# Altium schematic symbol library 原理图库.SchLib: 215 symbols (part 3 of 3)
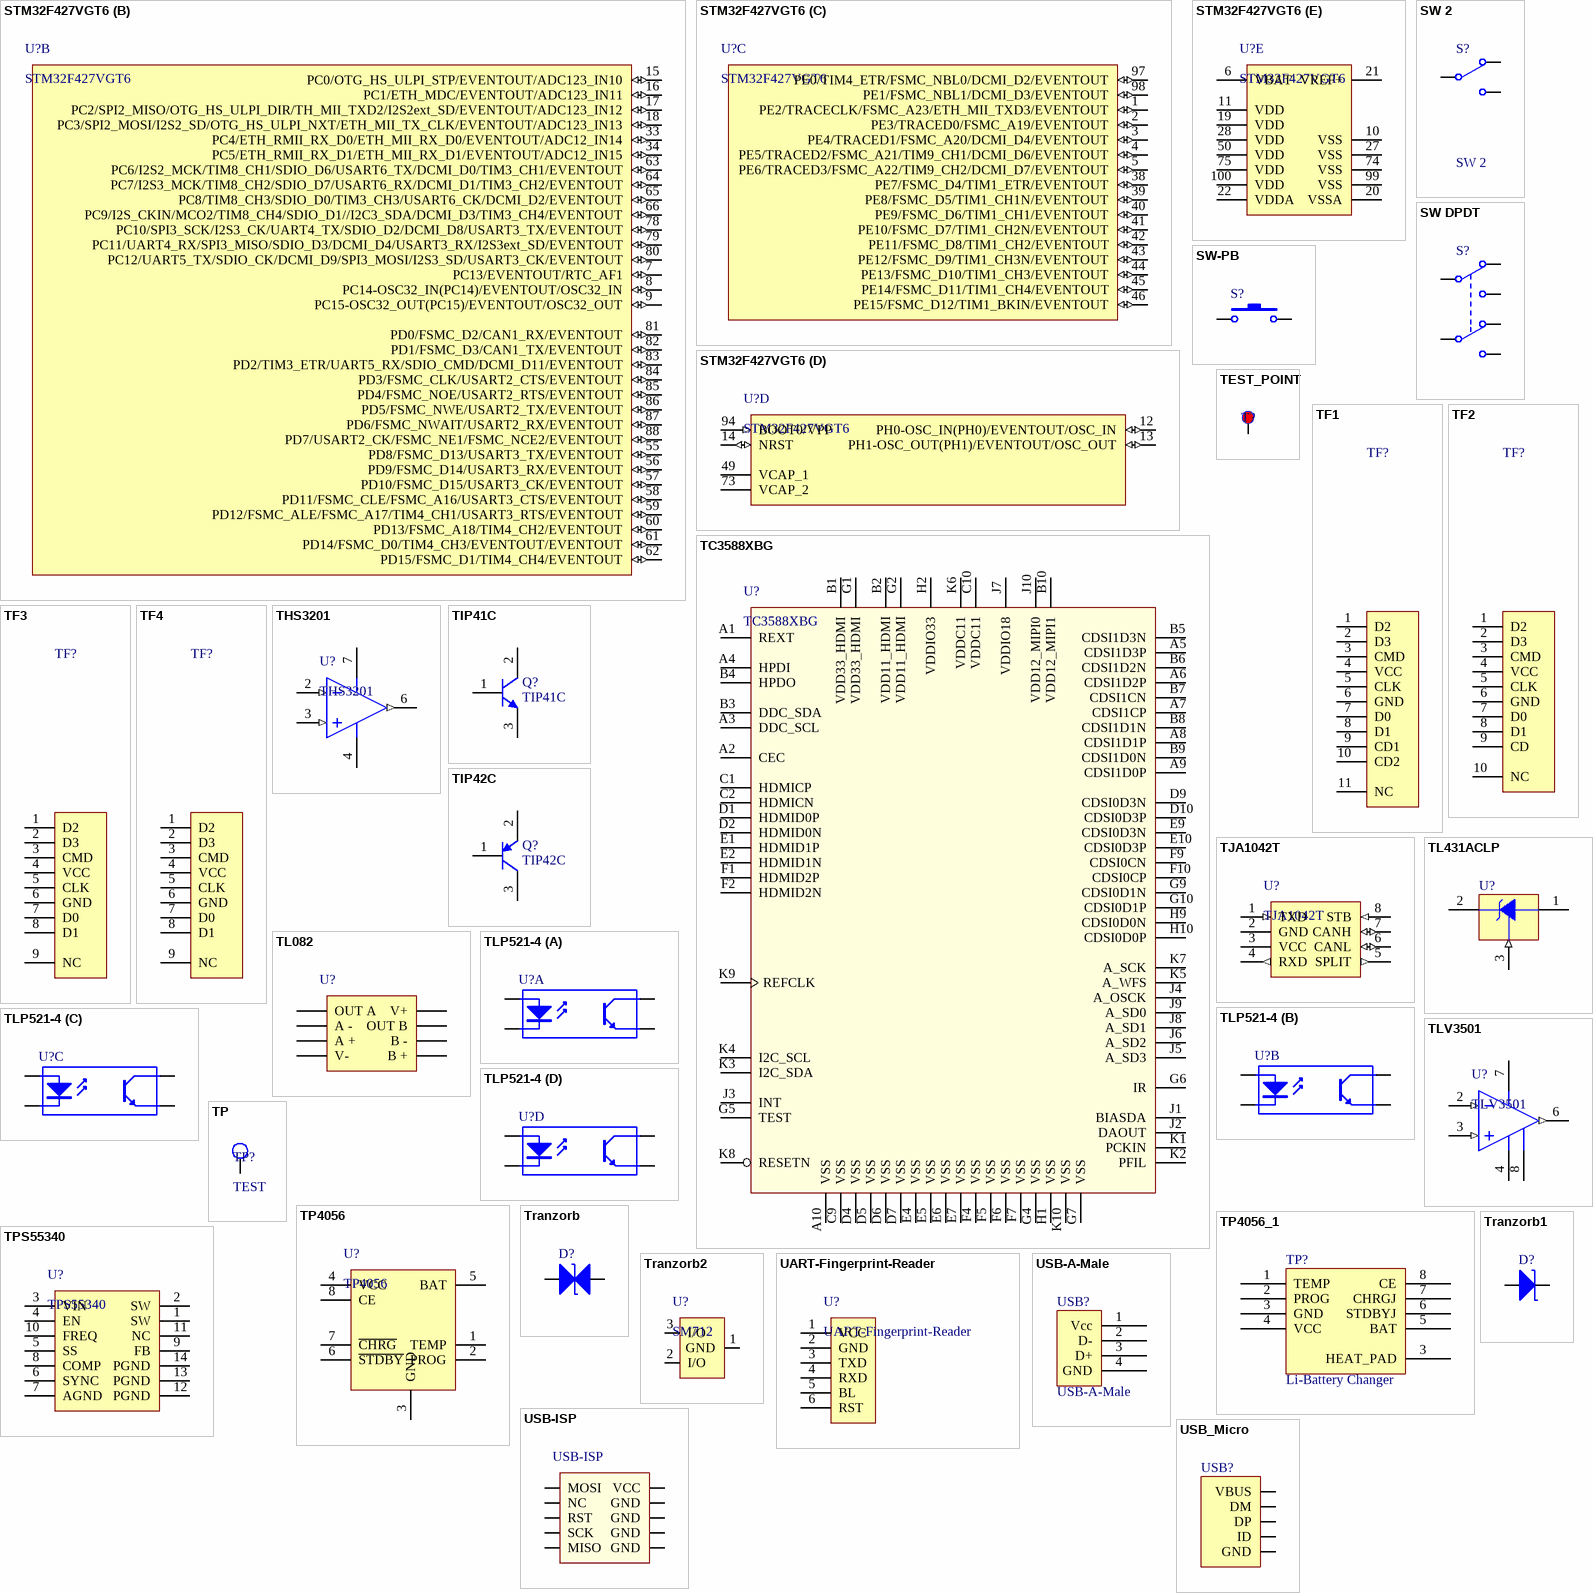
[diagram p10: symbols STM32F427VGT6 to USB_Micro]

## TIP42C
designator Q?
NPN Bipolar Transistor; Published: 8-Jun-2000; LatestRevisionDate: 17-Jul-2002; LatestRevisionNote: Re-released for DXP Platform.; PackageReference: TO-226-AA; Publisher: Altium Limited; PackageDescription: TO, Flat Index; 3 In-Line, Axial Leads; Body Dia. 4.8mm; Leads 0.55 x 0.51 mm (max); Code_JEDEC: TO-226-AA
footprint TO-220AB (TO, Thru-Hole, Vertical, Heatsink Mounted; 3 In-Line Leads; Pitch 2.54 mm)
pins: 1 B, 2 E, 3 C

## TJA1042T
designator U?
具有待机模式的高速CAN收发器
footprint SOIC8_L (SOIC, 8-Leads, Body 4.9x3.9mm, Pitch 1.27mm, IPC High Density)
footprint SOIC8_M (SOIC, 8-Leads, Body 4.9x3.9mm, Pitch 1.27mm, IPC Low Density)
footprint SOIC8_N (SOIC, 8-Leads, Body 4.9x3.9mm, Pitch 1.27mm, IPC Medium Density)
pins: 1 TXD (in), 2 GND (power), 3 VCC (power), 4 RXD (out), 5 SPLIT (out), 6 CANL (io), 7 CANH (io), 8 STB (in)

## TL082
designator U?  (value not drawn)
footprint DIP-8
pins: 1 OUT A, 2 A -, 3 A +, 4 V-, 5 B +, 6 B -, 7 OUT B, 8 V+

## TL431ACLP
designator U?
Programmable Precision Reference; Published: 15-Apr-2002; DatasheetVersion: 1999; PackageVersion: 1996; PackageReference: 29-04; Publisher: Altium Limited; PackageDescription: TO, Flat Index; 3 In-Line, Axial Leads; Body Dia. 4.8mm; Leads 0.48 x 0.51 mm (max); ComponentLink1Description: Manufacturer Link; ComponentLink1URL: http://www.onsemi.com/site/products/taxonomy/0,4438,503,00.html; ComponentLink2Description: Datasheet; ComponentLink2URL: http://www.onsemi.com/pub/Collateral/TL431-D.PDF
footprint SOT23_L (SOT23, 3-Leads, Body 2.9x1.3mm, Pitch 0.95mm, Lead Span 2.3mm - Reverse Pinning, IPC High Density)
footprint SOT23_M (SOT23, 3-Leads, Body 2.9x1.3mm, Pitch 0.95mm, Lead Span 2.3mm - Reverse Pinning, IPC Low Density)
footprint SOT23_N (SOT23, 3-Leads, Body 2.9x1.3mm, Pitch 0.95mm, Lead Span 2.3mm - Reverse Pinning, IPC Medium Density)
pins: 1 A, 2 K, 3 REF (in)

## TLP521-4
designator U?  (value not drawn)
Published: 24-Mar-1999; LatestRevisionDate: 04-Mar-2005; LatestRevisionNote: Sch pins 3 & 4 Swapped.; DatasheetVersion: Nov-2003; PackageReference: DIP-4; Publisher: Altium Limited
footprint DIP-16 (width 7.62mm)
part A pins: 1 A "Anode", 2 K "Cathode", 15 E "Emitter", 16 C "Collector"
part B pins: 3 A "Anode", 4 K "Cathode", 13 E "Emitter", 14 C "Collector"
part C pins: 5 A "Anode", 6 K "Cathode", 11 E "Emitter", 12 C "Collector"
part D pins: 7 A "Anode", 8 K "Cathode", 9 E "Emitter", 10 C "Collector"

## TLV3501
designator U?
footprint SOP8_M (SOIC, 8-Leads, Body 4.9x3.9mm, Pitch 1.27mm, IPC Low Density)
footprint SOP8_L (SOIC, 8-Leads, Body 4.9x3.9mm, Pitch 1.27mm, IPC High Density)
footprint SOP8_N (SOIC, 8-Leads, Body 4.9x3.9mm, Pitch 1.27mm, IPC Medium Density)
pins: 2 IN- (in), 3 IN+ (in), 4 V- (power), 6 OUT (out), 7 V+ (power), 8 SHDN (power)

## TP
designator TP?, comment TEST
footprint JP1
pins: 1

## TP4056
designator U?
footprint SOP8_N (SOIC, 8-Leads, Body 4.9x3.9mm, Pitch 1.27mm, IPC Medium Density)
pins: 1 TEMP, 2 PROG, 3 GND, 4 VCC, 5 BAT, 6 ~{STDBY}, 7 ~{CHRG}, 8 CE

## TP4056_1
designator TP?, comment Li-Battery Changer
footprint SOP8_L (SOIC, 8-Leads, Body 4.9x3.9mm, Pitch 1.27mm, IPC High Density)
footprint SOP8_M (SOIC, 8-Leads, Body 4.9x3.9mm, Pitch 1.27mm, IPC Low Density)
footprint SOP8_N (SOIC, 8-Leads, Body 4.9x3.9mm, Pitch 1.27mm, IPC Medium Density)
pins: 1 TEMP, 2 PROG, 3 GND, 3 HEAT_PAD, 4 VCC, 5 BAT, 6 STDBYJ, 7 CHRGJ, 8 CE

## TPS55340
designator U?
footprint TSSOP14_L (TSOP, 14-Leads, Body 5x4.4mm, Pitch 0.65mm, IPC High Density)
footprint TSSOP14_M (TSOP, 14-Leads, Body 5x4.4mm, Pitch 0.65mm, IPC Low Density)
footprint TSSOP14_N (TSOP, 14-Leads, Body 5x4.4mm, Pitch 0.65mm, IPC Medium Density)
pins: 1 SW, 2 SW, 3 VIN, 4 EN, 5 SS, 6 SYNC, 7 AGND, 8 COMP, 9 FB, 10 FREQ, 11 NC, 12 PGND, 13 PGND, 14 PGND

## Tranzorb
designator D?
Transient Voltage Suppression (TVS) Diode; Published: 24-Mar-1999; LatestRevisionDate: 17-Jul-2002; LatestRevisionNote: Re-released for DXP Platform.; PackageReference: DO-7; Publisher: Altium Limited; PackageDescription: Axial Lead Diode
footprint DO-214AC (SMA)
footprint DO-214AB (SMC)
footprint DO-214AA (SMB)
pins: 1 A, 2 K

## Tranzorb1
designator D?
Transient Voltage Suppression (TVS) Diode; Published: 24-Mar-1999; LatestRevisionDate: 17-Jul-2002; LatestRevisionNote: Re-released for DXP Platform.; PackageReference: DO-7; Publisher: Altium Limited; PackageDescription: Axial Lead Diode
footprint DO-214AC (SMA)
footprint DO-214AB (SMC)
footprint DO-214AA (SMB)
pins: 1 A, 2 K

## Tranzorb2
designator U?, comment SM712
footprint SOT23_L (SOT23, 3-Leads, Body 2.9x1.3mm, Pitch 0.95mm, Lead Span 2.3mm - Reverse Pinning, IPC High Density)
footprint SOT23_M (SOT23, 3-Leads, Body 2.9x1.3mm, Pitch 0.95mm, Lead Span 2.3mm - Reverse Pinning, IPC Low Density)
footprint SOT23_N (SOT23, 3-Leads, Body 2.9x1.3mm, Pitch 0.95mm, Lead Span 2.3mm - Reverse Pinning, IPC Medium Density)
pins: 1 GND (power), 2 I/O (power), 3 I/O (power)

## UART-Fingerprint-Reader
designator U?
footprint UART-Fingerprint-Reader (微雪指纹模块)
pins: 1 VCC, 2 GND, 3 TXD, 4 RXD, 5 BL, 6 RST

## USB-A-Male
designator USB?
footprint USB-A-Male
pins: 1 Vcc, 2 D-, 3 D+, 4 GND

## USB-ISP
designator USB-ISP, comment 1  (value not drawn)
footprint Header 5x2
pins: 1 MOSI, 2 NC, 3 RST, 4 SCK, 5 MISO, 6 GND, 7 GND, 8 GND, 9 GND, 10 VCC

## USB_Micro
designator USB?  (value not drawn)
USB
footprint USB_Micro (5P 贴片 带定位柱)
footprint USB_Micro_U018 (5P 直插)
pins: 1 VBUS, 2 DM, 3 DP, 4 ID, 5 GND

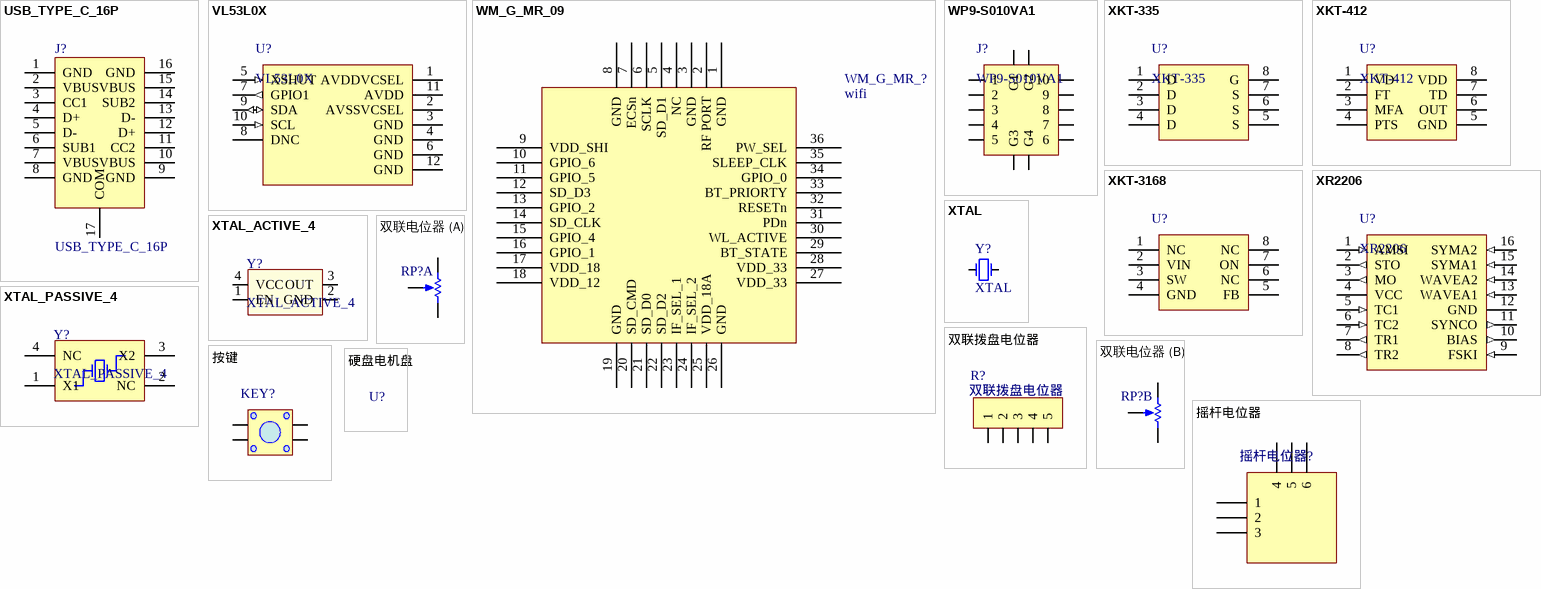
[diagram p8: symbols USB_TYPE_C_16P to 硬盘电机盘]

## USB_TYPE_C_16P
designator J?
footprint USB_TYPEC_16P
pins: 1 GND, 2 VBUS, 3 CC1, 4 D+, 5 D-, 6 SUB1, 7 VBUS, 8 GND, 9 GND, 10 VBUS, 11 CC2, 12 D+, 13 D-, 14 SUB2, 15 VBUS, 16 GND, 17 COM

## VL53L0X
designator U?
footprint VL53L0X
pins: 1 AVDDVCSEL (power), 2 AVSSVCSEL (power), 3 GND (power), 4 GND (power), 5 XSHUT (in), 6 GND (power), 7 GPIO1 (out), 8 DNC, 9 SDA (io), 10 SCL (in), 11 AVDD (power), 12 GND (power)

## WM_G_MR_09
designator WM_G_MR_?, comment wifi
footprint WM_G_MR_09
pins: 1 GND, 2 RF PORT, 3 GND, 4 NC, 5 SD_D1, 6 SCLK, 7 ECSn, 8 GND, 9 VDD_SHI, 10 GPIO_6, 11 GPIO_5, 12 SD_D3, 13 GPIO_2, 14 SD_CLK, 15 GPIO_4, 16 GPIO_1, 17 VDD_18, 18 VDD_12, 19 GND, 20 SD_CMD, 21 SD_D0, 22 SD_D2, 23 IF_SEL_1, 24 IF_SEL_2, 25 VDD_18A, 26 GND, 27 VDD_33, 28 VDD_33, 29 BT_STATE, 30 WL_ACTIVE, 31 PDn, 32 RESETn, 33 BT_PRIORTY, 34 GPIO_0, 35 SLEEP_CLK, 36 PW_SEL

## WP9-S010VA1
designator J?
JAE 10P板对板连接器(插座)
footprint WP9-S010VA1 (JAE 10P板对板连接器(插座))
pins: 1, 2, 3, 4, 5, 6, 7, 8, 9, 10, G1, G2, G3, G4

## XKT-335
designator U?
footprint SOP8_L (SOIC, 8-Leads, Body 4.9x3.9mm, Pitch 1.27mm, IPC High Density)
footprint SOP8_M (SOIC, 8-Leads, Body 4.9x3.9mm, Pitch 1.27mm, IPC Low Density)
footprint SOP8_N (SOIC, 8-Leads, Body 4.9x3.9mm, Pitch 1.27mm, IPC Medium Density)
pins: 1 D, 2 D, 3 D, 4 D, 5 S, 6 S, 7 S, 8 G

## XKT-412
designator U?
footprint SOP8_L (SOIC, 8-Leads, Body 4.9x3.9mm, Pitch 1.27mm, IPC High Density)
footprint SOP8_M (SOIC, 8-Leads, Body 4.9x3.9mm, Pitch 1.27mm, IPC Low Density)
footprint SOP8_N (SOIC, 8-Leads, Body 4.9x3.9mm, Pitch 1.27mm, IPC Medium Density)
pins: 1 VD, 2 FT, 3 MFA, 4 PTS, 5 GND, 6 OUT, 7 TD, 8 VDD

## XKT-3168
designator U?
footprint SOP8_L (SOIC, 8-Leads, Body 4.9x3.9mm, Pitch 1.27mm, IPC High Density)
footprint SOP8_M (SOIC, 8-Leads, Body 4.9x3.9mm, Pitch 1.27mm, IPC Low Density)
footprint SOP8_N (SOIC, 8-Leads, Body 4.9x3.9mm, Pitch 1.27mm, IPC Medium Density)
pins: 1 NC, 2 VIN, 3 SW, 4 GND, 5 FB, 6 NC, 7 ON, 8 NC

## XR2206
designator U?
footprint DIP-16 (width 7.62mm)
pins: 1 AMSI (in), 2 STO (out), 3 MO (out), 4 VCC (power), 5 TC1 (in), 6 TC2 (in), 7 TR1 (out), 8 TR2 (out), 9 FSKI (in), 10 BIAS (out), 11 SYNCO (out), 12 GND (power), 13 WAVEA1 (in), 14 WAVEA2 (in), 15 SYMA1 (in), 16 SYMA2 (in)

## XTAL
designator Y?
Crystal Oscillator; Published: 8-Jun-2000; LatestRevisionDate: 17-Jul-2002; LatestRevisionNote: Re-released for DXP Platform.; PackageReference: R38; Publisher: Altium Limited; PackageDescription: Crystal, Thru-Hole; 2 Leads; Body 3.1 x 8.2 mm (Dia.xH)
footprint XTAL-206 (圆柱晶振 2mm X 6mm)
footprint 49S
footprint XTAL-206-smt (Footprint not found)
pins: 1 OSC1, 2 OSC2

## XTAL_ACTIVE_4
designator Y?
Crystal Oscillator; Published: 8-Jun-2000; LatestRevisionDate: 17-Jul-2002; LatestRevisionNote: Re-released for DXP Platform.; PackageReference: R38; Publisher: Altium Limited; PackageDescription: Crystal, Thru-Hole; 2 Leads; Body 3.1 x 8.2 mm (Dia.xH)
footprint XTAL-3225
footprint XTAL-5032
pins: 1 EN, 2 GND, 3 OUT, 4 VCC

## XTAL_PASSIVE_4
designator Y?
Crystal Oscillator; Published: 8-Jun-2000; LatestRevisionDate: 17-Jul-2002; LatestRevisionNote: Re-released for DXP Platform.; PackageReference: R38; Publisher: Altium Limited; PackageDescription: Crystal, Thru-Hole; 2 Leads; Body 3.1 x 8.2 mm (Dia.xH)
footprint XTAL-5032
footprint XTAL-3225
pins: 1 X1, 2 NC, 3 X2, 4 NC

## 双联拨盘电位器
designator R?
footprint 双联拨盘电位器
pins: 1, 2, 3, 4, 5

## 双联电位器
designator RP?  (value not drawn)
footprint WH148-2 (双联电位器)
part A pins: 1 BOT, 2 TAP, 3 TOP
part B pins: 4 TOP, 5 TAP, 6 BOT

## 按键
designator KEY?  (value not drawn)
footprint KEY - 6x6
footprint KEY - 12x12
pins: 1, 2, 3, 4

## 摇杆电位器
designator 摇杆电位器?  (value not drawn)
footprint 摇杆电位器
pins: 1, 2, 3, 4, 5, 6

## 硬盘电机盘
designator U?  (value not drawn)
footprint 硬盘电机盘